# Altium schematic symbol library SYB.SchLib.SchLib: 33 symbols
Pins are listed as number, name and electrical type; pins without a type are passive.

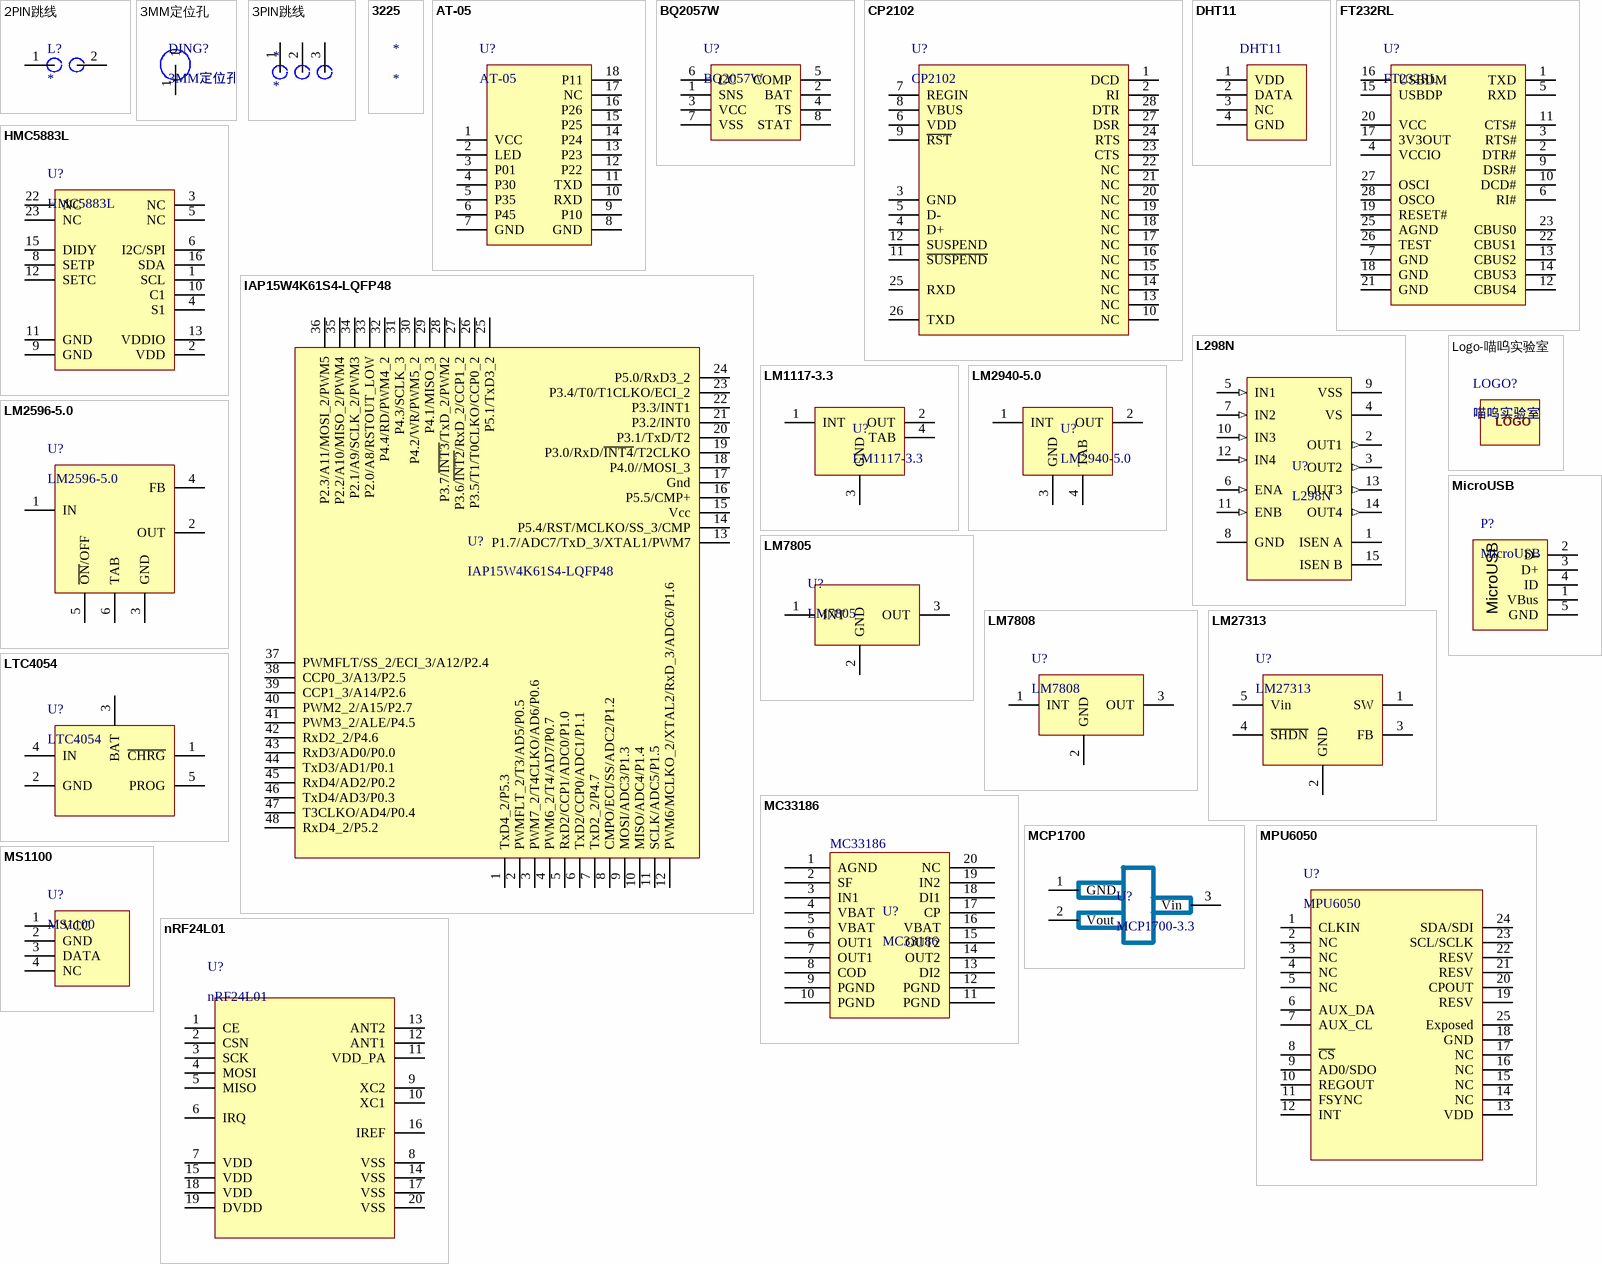
[diagram p0: symbols 2PIN跳线 to nRF24L01]

## 2PIN跳线
designator L?
pins: 1, 2

## 3MM定位孔
designator DING?
footprint 3MM定位孔
pins: 1

## 3PIN跳线
designator *
pins: 1, 2, 3

## 3225
designator *

## AT-05
designator U?
footprint AT-05-PCB
pins: 1 VCC, 2 LED, 3 P01, 4 P30, 5 P35, 6 P45, 7 GND, 8 GND, 9 P10, 10 RXD, 11 TXD, 12 P22, 13 P23, 14 P24, 15 P25, 16 P26, 17 NC, 18 P11

## BQ2057W
designator U?
pins: 1 SNS, 2 BAT, 3 VCC, 4 TS, 5 COMP, 6 CC, 7 VSS, 8 STAT

## CP2102
designator U?
footprint QFN28 (QFN, 28-Leads, Body 5.0x5.0mm (max), Pitch 0.50mm, IPC Medium Density)
pins: 1 DCD, 2 RI, 3 GND, 4 D+, 5 D-, 6 VDD, 7 REGIN, 8 VBUS, 9 ~{RST}, 10 NC, 11 ~{SUSPEND}, 12 SUSPEND, 13 NC, 14 NC, 15 NC, 16 NC, 17 NC, 18 NC, 19 NC, 20 NC, 21 NC, 22 NC, 23 CTS, 24 RTS, 25 RXD, 26 TXD, 27 DSR, 28 DTR

## DHT11
designator DHT11  (value not drawn)
pins: 1 VDD, 2 DATA, 3 NC, 4 GND

## FT232RL
designator U?
footprint SSOP-28
pins: 1 TXD, 2 DTR#, 3 RTS#, 4 VCCIO, 5 RXD, 6 RI#, 7 GND, 9 DSR#, 10 DCD#, 11 CTS#, 12 CBUS4, 13 CBUS2, 14 CBUS3, 15 USBDP, 16 USBDM, 17 3V3OUT, 18 GND, 19 RESET#, 20 VCC, 21 GND, 22 CBUS1, 23 CBUS0, 25 AGND, 26 TEST, 27 OSCI, 28 OSCO

## HMC5883L
designator U?
pins: 1 SCL, 2 VDD, 3 NC, 4 S1, 5 NC, 6 I2C/SPI, 8 SETP, 9 GND, 10 C1, 11 GND, 12 SETC, 13 VDDIO, 15 DIDY, 16 SDA, 22 NC, 23 NC

## IAP15W4K61S4-LQFP48
designator U?
pins: 1 TxD4_2/P5.3, 2 PWMFLT_2/T3/AD5/P0.5, 3 PWM7_2/T4CLKO/AD6/P0.6, 4 PWM6_2/T4/AD7/P0.7, 5 RxD2/CCP1/ADC0/P1.0, 6 TxD2/CCP0/ADC1/P1.1, 7 TxD2_2/P4.7, 8 CMPO/ECI/SS/ADC2/P1.2, 9 MOSI/ADC3/P1.3, 10 MISO/ADC4/P1.4, 11 SCLK/ADC5/P1.5, 12 PWM6/MCLKO_2/XTAL2/RxD_3/ADC6/P1.6, 13 P1.7/ADC7/TxD_3/XTAL1/PWM7, 14 P5.4/RST/MCLKO/SS_3/CMP, 15 Vcc, 16 P5.5/CMP+, 17 Gnd, 18 P4.0//MOSI_3, 19 P3.0/RxD/~{INT4}/T2CLKO, 20 P3.1/TxD/T2, 21 P3.2/INT0, 22 P3.3/INT1, 23 P3.4/T0/T1CLKO/ECI_2, 24 P5.0/RxD3_2, 25 P5.1/TxD3_2, 26 P3.5/T1/T0CLKO/CCP0_2, 27 P3.6/~{INT2}/RxD_2/CCP1_2, 28 P3.7/~{INT3}/TxD_2/PWM2, 29 P4.1/MISO_3, 30 P4.2/WR/PWM5_2, 31 P4.3/SCLK_3, 32 P4.4/RD/PWM4_2, 33 P2.0/A8/RSTOUT_LOW, 34   P2.1/A9/SCLK_2/PWM3, 35 P2.2/A10/MISO_2/PWM4, 36 P2.3/A11/MOSI_2/PWM5, 37 PWMFLT/SS_2/ECI_3/A12/P2.4, 38 CCP0_3/A13/P2.5, 39 CCP1_3/A14/P2.6, 40 PWM2_2/A15/P2.7, 41 PWM3_2/ALE/P4.5, 42 RxD2_2/P4.6, 43 RxD3/AD0/P0.0, 44 TxD3/AD1/P0.1, 45 RxD4/AD2/P0.2, 46 TxD4/AD3/P0.3, 47 T3CLKO/AD4/P0.4, 48 RxD4_2/P5.2

## L298N
designator U?
pins: 1 ISEN A, 2 OUT1 (out), 3 OUT2 (out), 4 VS, 5 IN1 (in), 6 ENA (in), 7 IN2 (in), 8 GND, 9 VSS, 10 IN3 (in), 11 ENB (in), 12 IN4 (in), 13 OUT3 (out), 14 OUT4 (out), 15 ISEN B

## LM1117-3.3
designator U?
pins: 1 INT, 2 OUT, 3 GND, 4 TAB

## LM2596-5.0
designator U?
footprint LM2596-5.0 (TO-263)
pins: 1 IN, 2 OUT, 3 GND, 4 FB, 5 ~{ON}/OFF, 6 TAB

## LM2940-5.0
designator U?
footprint LM2940 (SOT223, 4-Leads, Body 6.7x8.4mm (max), Pitch 2.30mm, IPC Medium Density)
pins: 1 INT, 2 OUT, 3 GND, 4 TAB

## LM7805
designator U?
pins: 1 INT, 2 GND, 3 OUT

## LM7808
designator U?
pins: 1 INT, 2 GND, 3 OUT

## LM27313
designator U?
pins: 1 SW, 2 GND, 3 FB, 4 ~{SHDN}, 5 Vin

## Logo-喵呜实验室
designator LOGO?, comment 喵呜实验室
footprint Logo (黑的logo)
text: LOGO

## LTC4054
designator U?
pins: 1 ~{CHRG}, 2 GND, 3 BAT, 4 IN, 5 PROG

## MC33186
designator U?
pins: 1 AGND, 2 SF, 3 IN1, 4 VBAT, 5 VBAT, 6 OUT1, 7 OUT1, 8 COD, 9 PGND, 10 PGND, 11 PGND, 12 PGND, 13 DI2, 14 OUT2, 15 OUT2, 16 VBAT, 17 CP, 18 DI1, 19 IN2, 20 NC

## MCP1700
designator U?, comment MCP1700-3.3
footprint SOT23
pins: 1 GND, 2 Vout, 3 Vin

## MicroUSB
designator P?
footprint MicroUSB (标准B型-贴片型)
pins: 1 VBus, 2 D-, 3 D+, 4 ID, 5 GND

## MPU6050
designator U?
footprint MPU6050-QFN-24N (QFN, 24-Leads, Body 4.1x4.1mm (max), Pitch 0.50mm, IPC Medium Density)
pins: 1 CLKIN, 2 NC, 3 NC, 4 NC, 5 NC, 6 AUX_DA, 7 AUX_CL, 8 ~{CS}, 9 AD0/SDO, 10 REGOUT, 11 FSYNC, 12 INT, 13 VDD, 14 NC, 15 NC, 16 NC, 17 NC, 18 GND, 19 RESV, 20 CPOUT, 21 RESV, 22 RESV, 23 SCL/SCLK, 24 SDA/SDI, 25 Exposed

## MS1100
designator U?
pins: 1 VCC, 2 GND, 3 DATA, 4 NC

## nRF24L01
designator U?
pins: 1 CE, 2 CSN, 3 SCK, 4 MOSI, 5 MISO, 6 IRQ, 7 VDD, 8 VSS, 9 XC2, 10 XC1, 11 VDD_PA, 12 ANT1, 13 ANT2, 14 VSS, 15 VDD, 16 IREF, 17 VSS, 18 VDD, 19 DVDD, 20 VSS

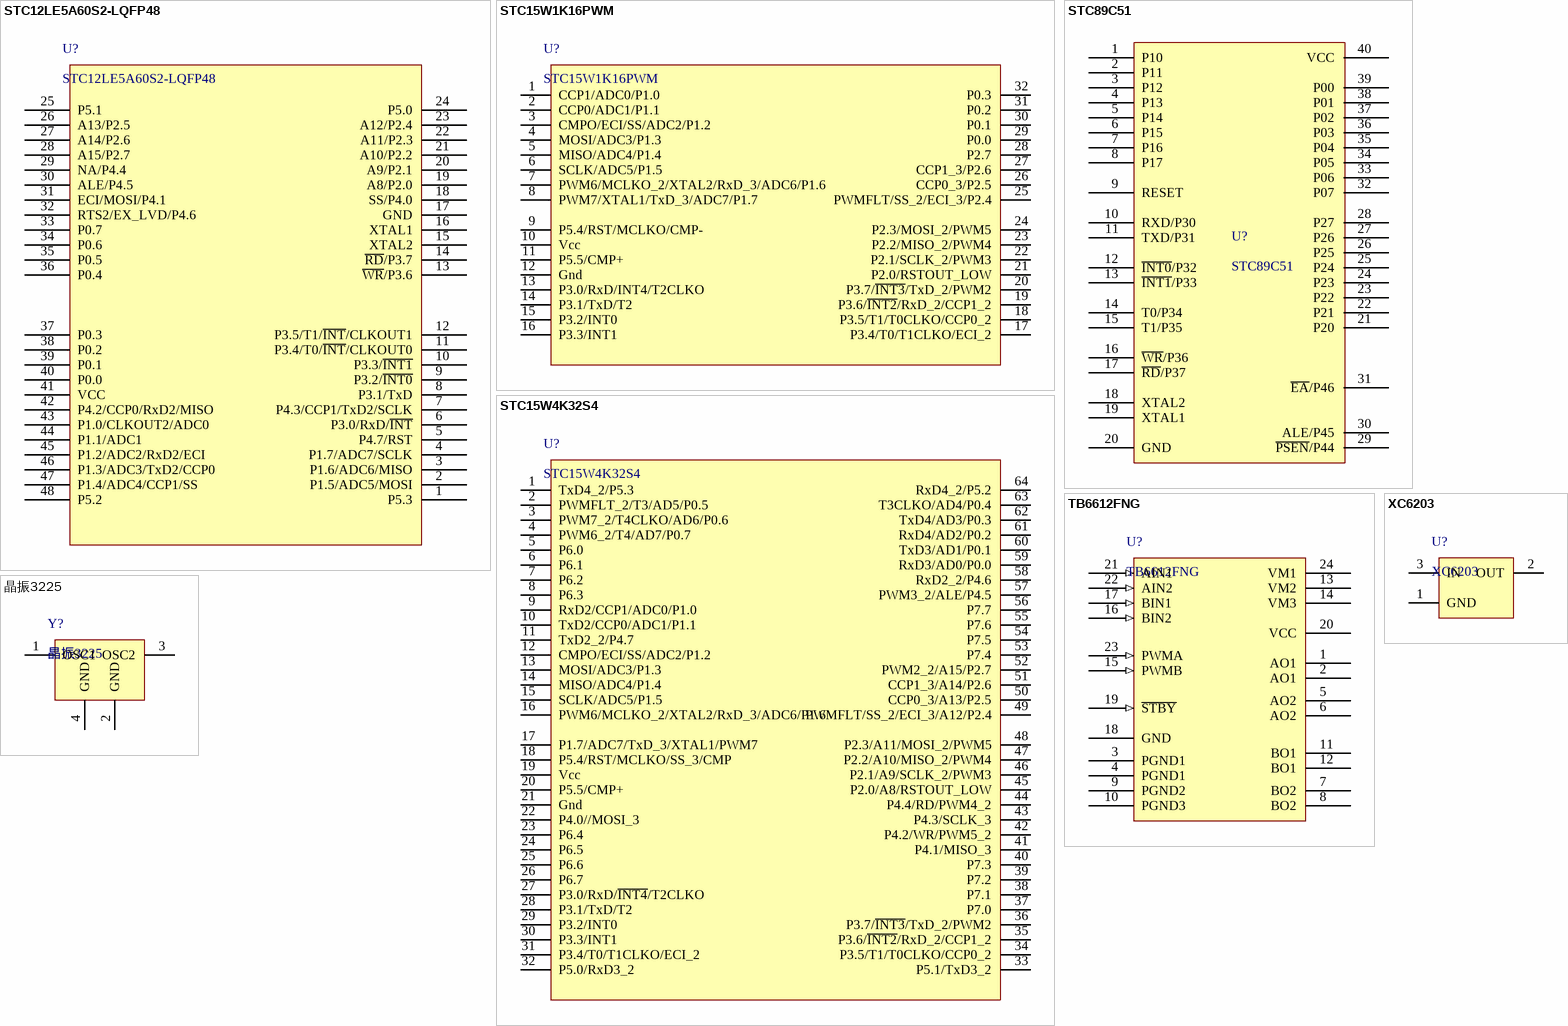
[diagram p1: symbols STC12LE5A60S2-LQFP48 to 晶振3225]

## STC12LE5A60S2-LQFP48
designator U?
footprint LQFP48 (STC12C5A60S2-LQFP48)
pins: 1 P5.3, 2 P1.5/ADC5/MOSI, 3 P1.6/ADC6/MISO, 4 P1.7/ADC7/SCLK, 5 P4.7/RST, 6 P3.0/RxD/~{INT}, 7 P4.3/CCP1/TxD2/SCLK, 8 P3.1/TxD, 9 P3.2/~{INT0}, 10 P3.3/~{INT1}, 11 P3.4/T0/~{INT}/CLKOUT0, 12 P3.5/T1/~{INT}/CLKOUT1, 13 ~{WR}/P3.6, 14 ~{RD}/P3.7, 15 XTAL2 (power), 16 XTAL1, 17 GND, 18 SS/P4.0, 19 A8/P2.0, 20 A9/P2.1, 21 A10/P2.2, 22 A11/P2.3, 23 A12/P2.4, 24 P5.0, 25 P5.1, 26 A13/P2.5, 27 A14/P2.6, 28 A15/P2.7, 29 NA/P4.4, 30 ALE/P4.5, 31 ECI/MOSI/P4.1, 32 RTS2/EX_LVD/P4.6, 33 P0.7, 34 P0.6, 35 P0.5, 36 P0.4, 37 P0.3, 38 P0.2, 39 P0.1, 40 P0.0, 41 VCC, 42 P4.2/CCP0/RxD2/MISO, 43 P1.0/CLKOUT2/ADC0, 44 P1.1/ADC1, 45 P1.2/ADC2/RxD2/ECI, 46 P1.3/ADC3/TxD2/CCP0, 47 P1.4/ADC4/CCP1/SS, 48 P5.2

## STC15W1K16PWM
designator U?
pins: 1 CCP1/ADC0/P1.0, 2 CCP0/ADC1/P1.1, 3 CMPO/ECI/SS/ADC2/P1.2, 4 MOSI/ADC3/P1.3, 5 MISO/ADC4/P1.4, 6 SCLK/ADC5/P1.5, 7 PWM6/MCLKO_2/XTAL2/RxD_3/ADC6/P1.6, 8 PWM7/XTAL1/TxD_3/ADC7/P1.7, 9 P5.4/RST/MCLKO/CMP-, 10 Vcc, 11 P5.5/CMP+, 12 Gnd, 13 P3.0/RxD/INT4/T2CLKO, 14 P3.1/TxD/T2, 15 P3.2/INT0, 16 P3.3/INT1, 17 P3.4/T0/T1CLKO/ECI_2, 18 P3.5/T1/T0CLKO/CCP0_2, 19 P3.6/~{INT2}/RxD_2/CCP1_2, 20 P3.7/~{INT3}/TxD_2/PWM2, 21 P2.0/RSTOUT_LOW, 22 P2.1/SCLK_2/PWM3, 23 P2.2/MISO_2/PWM4, 24 P2.3/MOSI_2/PWM5, 25 PWMFLT/SS_2/ECI_3/P2.4, 26 CCP0_3/P2.5, 27 CCP1_3/P2.6, 28 P2.7, 29 P0.0, 30 P0.1, 31 P0.2, 32 P0.3

## STC15W4K32S4
designator U?
pins: 1 TxD4_2/P5.3, 2 PWMFLT_2/T3/AD5/P0.5, 3 PWM7_2/T4CLKO/AD6/P0.6, 4 PWM6_2/T4/AD7/P0.7, 5 P6.0, 6 P6.1, 7 P6.2, 8 P6.3, 9 RxD2/CCP1/ADC0/P1.0, 10 TxD2/CCP0/ADC1/P1.1, 11 TxD2_2/P4.7, 12 CMPO/ECI/SS/ADC2/P1.2, 13 MOSI/ADC3/P1.3, 14 MISO/ADC4/P1.4, 15 SCLK/ADC5/P1.5, 16 PWM6/MCLKO_2/XTAL2/RxD_3/ADC6/P1.6, 17 P1.7/ADC7/TxD_3/XTAL1/PWM7, 18 P5.4/RST/MCLKO/SS_3/CMP, 19 Vcc, 20 P5.5/CMP+, 21 Gnd, 22 P4.0//MOSI_3, 23 P6.4, 24 P6.5, 25 P6.6, 26 P6.7, 27 P3.0/RxD/~{INT4}/T2CLKO, 28 P3.1/TxD/T2, 29 P3.2/INT0, 30 P3.3/INT1, 31 P3.4/T0/T1CLKO/ECI_2, 32 P5.0/RxD3_2, 33 P5.1/TxD3_2, 34 P3.5/T1/T0CLKO/CCP0_2, 35 P3.6/~{INT2}/RxD_2/CCP1_2, 36 P3.7/~{INT3}/TxD_2/PWM2, 37 P7.0, 38 P7.1, 39 P7.2, 40 P7.3, 41 P4.1/MISO_3, 42 P4.2/WR/PWM5_2, 43 P4.3/SCLK_3, 44 P4.4/RD/PWM4_2, 45 P2.0/A8/RSTOUT_LOW, 46   P2.1/A9/SCLK_2/PWM3, 47 P2.2/A10/MISO_2/PWM4, 48 P2.3/A11/MOSI_2/PWM5, 49 PWMFLT/SS_2/ECI_3/A12/P2.4, 50 CCP0_3/A13/P2.5, 51 CCP1_3/A14/P2.6, 52 PWM2_2/A15/P2.7, 53 P7.4, 54 P7.5, 55 P7.6, 56 P7.7, 57 PWM3_2/ALE/P4.5, 58 RxD2_2/P4.6, 59 RxD3/AD0/P0.0, 60 TxD3/AD1/P0.1, 61 RxD4/AD2/P0.2, 62 TxD4/AD3/P0.3, 63 T3CLKO/AD4/P0.4, 64 RxD4_2/P5.2

## STC89C51
designator U?
pins: 1 P10, 2 P11, 3 P12, 4 P13, 5 P14, 6 P15, 7 P16, 8 P17, 9 RESET, 10 RXD/P30, 11 TXD/P31, 12 ~{INT0}/P32, 13 ~{INT1}/P33, 14 T0/P34, 15 T1/P35, 16 ~{WR}/P36, 17 ~{RD}/P37, 18 XTAL2, 19 XTAL1, 20 GND, 21 P20, 22 P21, 23 P22, 24 P23, 25 P24, 26 P25, 27 P26, 28 P27, 29 ~{PSEN}/P44, 30 ALE/P45, 31 ~{EA}/P46, 32 P07, 33 P06, 34 P05, 35 P04, 36 P03, 37 P02, 38 P01, 39 P00, 40 VCC

## TB6612FNG
designator U?
footprint TB6612FNG-SSOP24-P-300-0.65A (TB6612FNG)
pins: 1 AO1, 2 AO1, 3 PGND1, 4 PGND1, 5 AO2, 6 AO2, 7 BO2, 8 BO2, 9 PGND2, 10 PGND3, 11 BO1, 12 BO1, 13 VM2, 14 VM3, 15 PWMB (in), 16 BIN2 (in), 17 BIN1 (in), 18 GND, 19 ~{STBY} (in), 20 VCC, 21 AIN1 (in), 22 AIN2 (in), 23 PWMA (in), 24 VM1

## XC6203
designator U?
pins: 1 GND, 2 OUT, 3 IN

## 晶振3225
designator Y?
pins: 1 OSC1, 2 GND, 3 OSC2, 4 GND